# Altium footprint library CAP_CAN_F_8MMx10.2MM_SMT.PcbLib: 1 footprints
Each footprint in its own frame and in the unit in brackets; x right, y up, seen from the top. Pads: shape width x height; smd on the part's side, far side on the other; paste and mask are expansions set on the pad; w line width, h text height; cw(c..) or ccw(c..) is an arc to the next point about the centre after c.
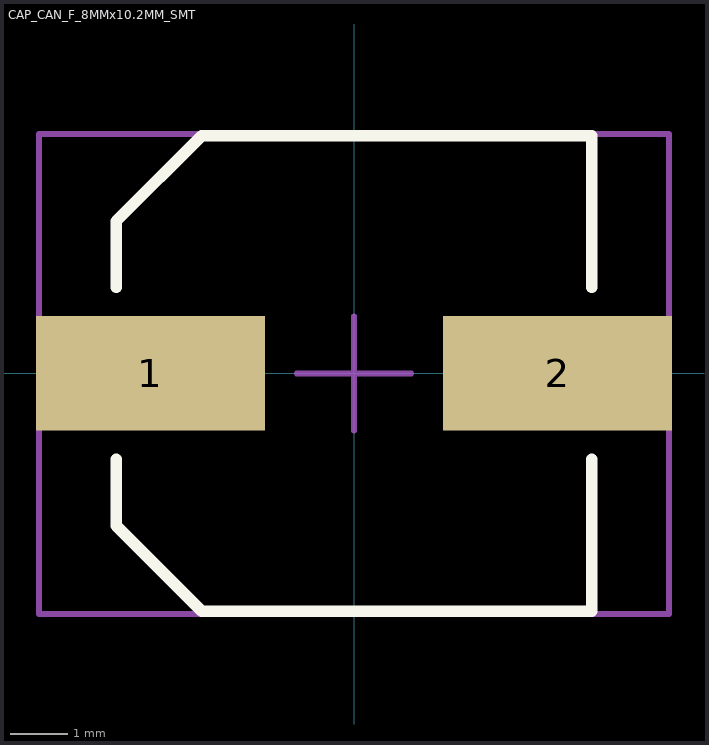
[diagram p0: the footprint, top view; thin cyan lines are the x and y axes]

## CAP_CAN_F_8MMx10.2MM_SMT [mm] "CAP SMT CAN F 8MM dia x 10.2MM height"
height 10.2
pads (2):
  rect 4x2 smd mask+0.102: 1(-3.555,0) 2(3.555,0)
Top Overlay:
  lines w0.2: -4.15,-1.5 -4.15,-2.66 -2.66,-4.15 4.15,-4.15 4.15,-1.5 ; -4.15,1.5 -4.15,2.66 -2.66,4.15 4.15,4.15 4.15,1.5
Part Outline:
  lines w0.1: -1,0 1,0 ; 0,-1 0,1 ; -5.5,-4.2 5.5,-4.2 5.5,4.18 -5.5,4.18 -5.5,-4.2
3D body: height 10.3, standoff 0.1, extent -3.992,-3.968 3.992,4